# EAGLE library part 4DIG_7SEG_056 (library 7-seg-disp)
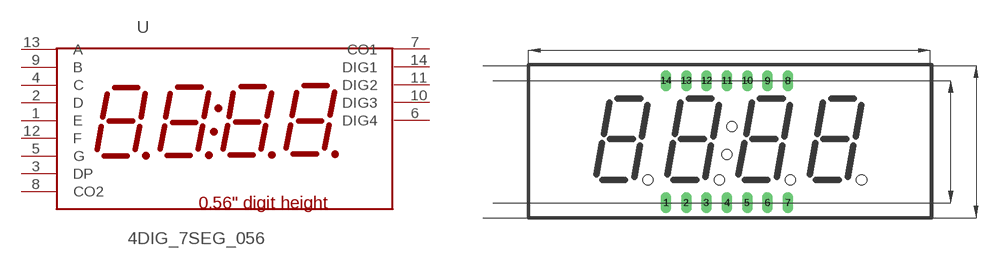
[diagram p1: symbol with the pads of 4DIG_7SEG_056; footprint 4DIG_7SEG_056]

Designator prefix -

## 4DIG_7SEG_056  [4DIG_7SEG_056]
1  E
2  D
3  DP
4  C
5  G
6  DIG4
7  CO1
8  CO2
9  B
10  DIG3
11  DIG2
12  F
13  A
14  DIG1

## Footprint 4DIG_7SEG_056 (pad centres in mm)
drill 0.8 long: 1 -2.54,-11.43; 2 0,-11.43; 3 2.54,-11.43; 4 5.08,-11.43; 5 7.62,-11.43; 6 10.16,-11.43; 7 12.7,-11.43; 8 12.7,3.81; 9 10.16,3.81; 10 7.62,3.81; 11 5.08,3.81; 12 2.54,3.81; 13 0,3.81; 14 -2.54,3.81